# Altium footprint library Footprints.PcbLib: 132 footprints (part 6 of 9)
Each footprint in its own frame and in the unit in brackets; x right, y up, seen from the top. Pads: shape width x height; smd on the part's side, far side on the other; paste and mask are expansions set on the pad; w line width, h text height; cw(c..) or ccw(c..) is an arc to the next point about the centre after c.
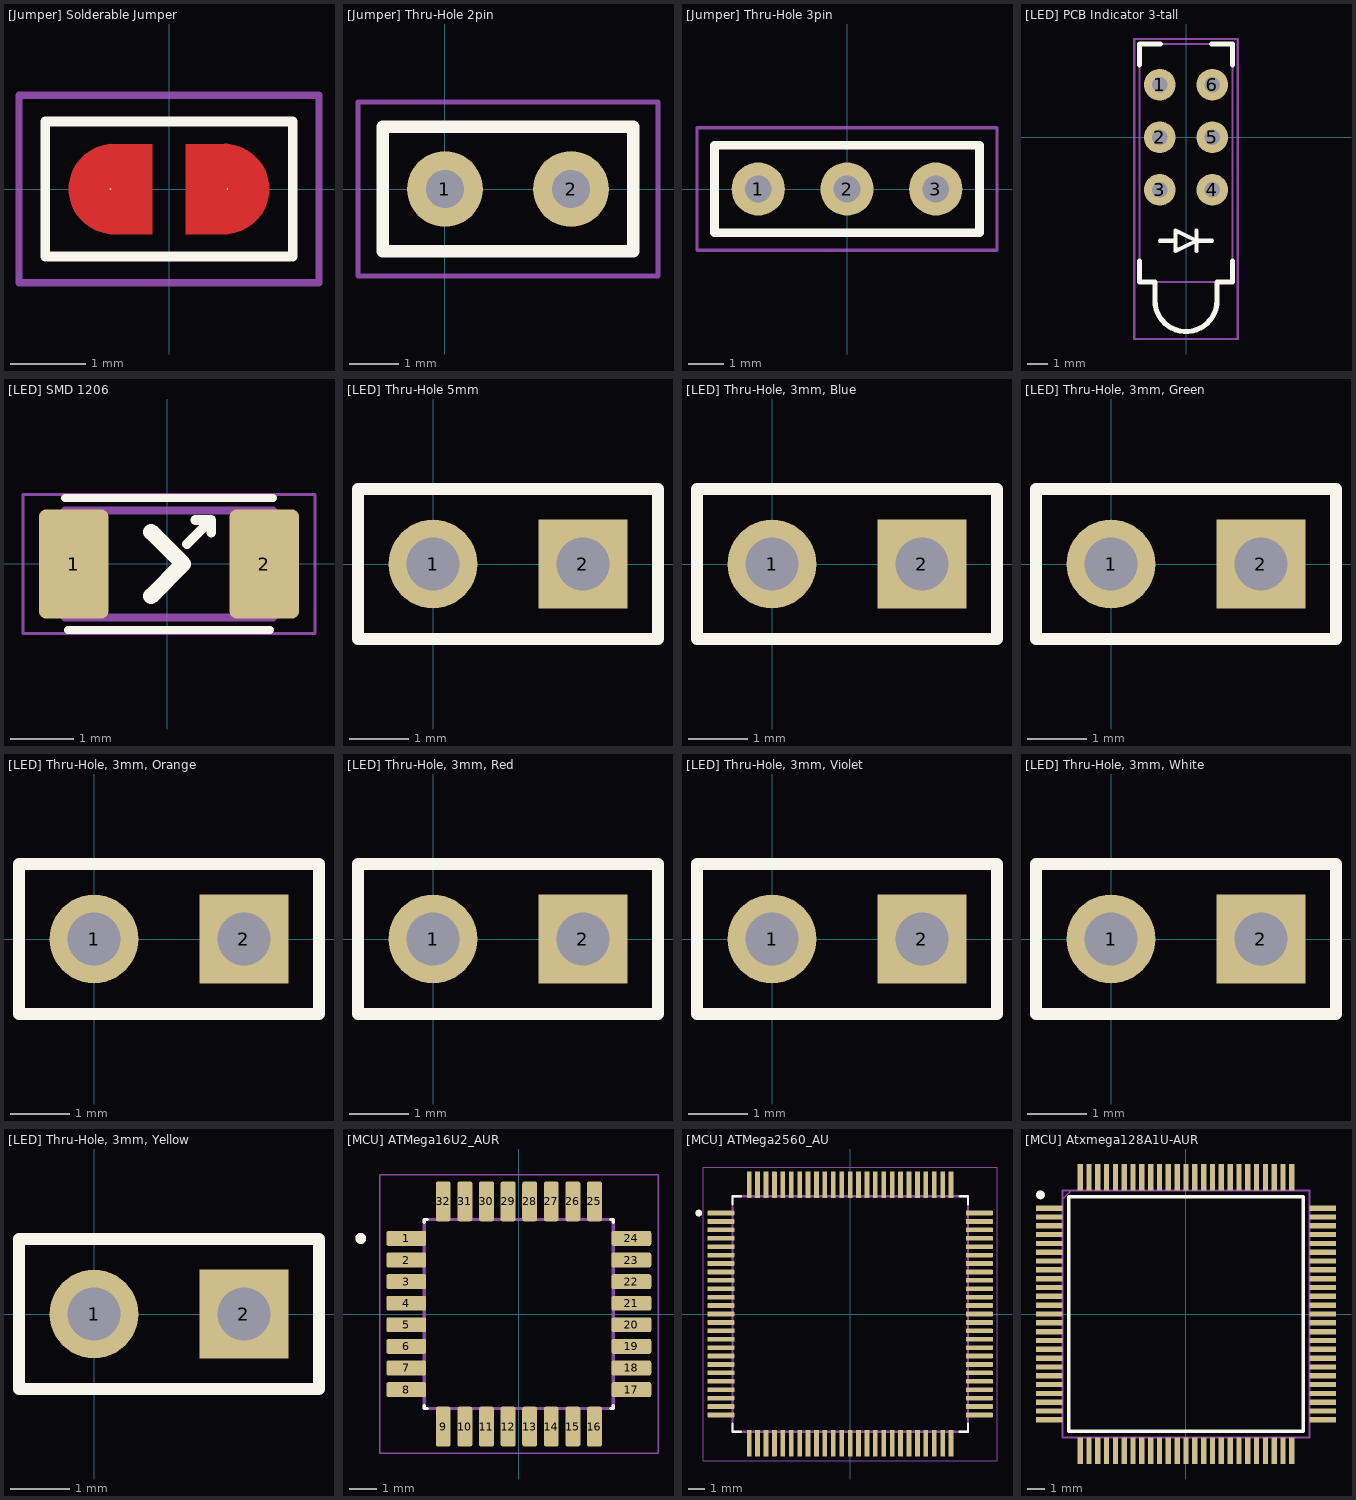
[diagram p5: the footprints below, top view; thin cyan lines are the x and y axes]

## [Jumper] Solderable Jumper [mil]
pads (2):
  round 1 smd: 1(-30.71,0) 2(30.71,0)
Top Layer:
  region: -8.9,-23.62 -8.9,23.62 -28.9,23.62 -30.76,23.62 -34.43,23.04 -37.97,21.89 -41.28,20.2 -44.29,18.02 -46.92,15.39 -49.1,12.38 -50.79,9.07 -51.94,5.53 -52.52,1.86 -52.52,-1.86 -51.94,-5.53 -50.79,-9.07 -49.1,-12.38 -46.92,-15.39 -44.29,-18.02 -41.28,-20.2 -37.97,-21.89 -34.43,-23.04 -30.76,-23.62 -28.9,-23.62
  region: 8.9,-23.62 8.9,23.62 28.9,23.62 30.76,23.62 34.43,23.04 37.97,21.89 41.28,20.2 44.29,18.02 46.92,15.39 49.1,12.38 50.79,9.07 51.94,5.53 52.52,1.86 52.52,-1.86 51.94,-5.53 50.79,-9.07 49.1,-12.38 46.92,-15.39 44.29,-18.02 41.28,-20.2 37.97,-21.89 34.43,-23.04 30.76,-23.62 28.9,-23.62
Top Overlay:
  lines w5: -64.96,-35.43 -64.96,35.43 64.96,35.43 64.96,-35.43 ; -63.39,-35.43 63.39,-35.43
Part Border:
  lines w3.94: -78.74,-49.21 -78.74,49.21 78.74,49.21 78.74,-49.21 -78.74,-49.21

## [Jumper] Thru-Hole 2pin [mil]
pads (2):
  round 60 hole 30: 1(0,0) 2(100,0)
Top Overlay:
  lines w10: -49.21,-49.21 149.21,-49.21 149.21,49.21 -49.21,49.21 -49.21,-49.21
Part Border:
  lines w3.94: -68.9,-68.9 -68.9,68.9 168.9,68.9 168.9,-68.9 -68.9,-68.9
3D body "Pin Header 1x2 TH Pitch 2.54mm.stp": height 373.85, standoff -125.98, extent -50,-50 150,50

## [Jumper] Thru-Hole 3pin [mil]
pads (3):
  round 60 hole 30: 1(-100,0) 2(0,0) 3(100,0)
Top Overlay:
  lines w10: -149.21,-49.21 149.21,-49.21 149.21,49.21 -149.21,49.21 -149.21,-49.21
Part Border:
  lines w3.94: -168.9,-68.9 -168.9,68.9 168.9,68.9 168.9,-68.9 -168.9,-68.9
3D body "Pin Header 1x3 TH Pitch 2.54mm.stp": height 373.85, standoff -125.98, extent -150,-50 150,50

## [LED] PCB Indicator 3-tall [mil] "QLA764B-3G"
pads (6):
  round 60 hole 30: 1(-50,100) 2(-50,0) 3(-50,-100) 4(50,-100) 5(50,0) 6(50,100)
Top Overlay:
  lines w7.87: -49.21,-196.85 -19.68,-196.85 ; 19.69,-216.54 19.69,-177.17 ; 49.21,-196.85 19.69,-196.85 ; 19.69,-196.85 -19.68,-216.54 -19.68,-177.17 19.69,-196.85
  lines w10: -88.58,-235.83 -88.58,-275.2 -59.06,-275.2 -59.06,-310.63 ccw(c0,-310.63) 59.06,-310.63 59.06,-275.2 88.58,-275.2 88.58,-235.83 ; -88.58,138.19 -88.58,177.56 -49.21,177.56 ; 49.21,177.56 88.58,177.56 88.58,138.19
Physical Outline:
  lines w3.94: -59.06,-275.2 -59.06,-310.63 ccw(c0,-310.63) 59.06,-310.63 59.06,-275.2 ; -88.58,-275.2 -88.58,177.56 88.58,177.56 88.58,-275.2 -88.58,-275.2
Part Border:
  lines w3.94: -98.43,-383.86 -98.43,187.01 98.43,187.01 98.43,-383.86 -98.43,-383.86
3D body "[LED] PCB Indicator 3-tall.stp": height 605.12, standoff -132.68, extent -85.04,-375 85.04,178.15

## [LED] SMD 1206 [mm]
pads (2):
  rrect20% 1.1x1.73 smd: 1(-1.48,0) 2(1.54,0)
Top Overlay:
  lines w0.127: -1.62,1.045 1.68,1.045 ; -1.57,-1.045 1.63,-1.045
  lines w0.155: 0.318,0.318 0.699,0.699 ; 0.445,0.699 0.699,0.699 ; 0.699,0.499 0.699,0.699
  lines w0.254: -0.254,-0.508 0.254,0 -0.254,0.508
Physical Outline:
  lines w0.127: -1.62,-0.85 -1.62,0.85 1.68,0.85 1.68,-0.85 -1.62,-0.85
Part Border:
  lines w0.05: -2.28,-1.1 -2.28,1.1 2.34,1.1 2.34,-1.1 -2.28,-1.1
3D body "step_temp.STEP": height 1.07, standoff -0.03, extent -1.57,-0.8 1.63,0.8

## [LED] Thru-Hole 5mm [mm]
pads (2):
  round 1.5 hole 0.9: 1(0,0)
  rect 1.5x1.5 hole 0.9: 2(2.54,0)
Top Overlay:
  lines w0.2: -1.27,-1.27 3.81,-1.27 3.81,1.27 -1.27,1.27 -1.27,-1.27
3D body "LED 5mm.STEP": height 9.8, standoff -26, extent -1.7,-2.921 3.8,3.078

## [LED] Thru-Hole, 3mm, Blue [mm]
pads (2):
  round 1.5 hole 0.9: 1(0,0)
  rect 1.5x1.5 hole 0.9: 2(2.54,0)
Top Overlay:
  lines w0.2: -1.27,-1.27 3.81,-1.27 3.81,1.27 -1.27,1.27 -1.27,-1.27
3D body "LED 3mm Blue.step": height 5.6, standoff -7, extent -0.625,-1.924 2.95,1.924

## [LED] Thru-Hole, 3mm, Green [mm]
pads (2):
  round 1.5 hole 0.9: 1(0,0)
  rect 1.5x1.5 hole 0.9: 2(2.54,0)
Top Overlay:
  lines w0.2: -1.27,-1.27 3.81,-1.27 3.81,1.27 -1.27,1.27 -1.27,-1.27
3D body "LED 3mm Green.step": height 5.6, standoff -7, extent -0.625,-1.924 2.95,1.924

## [LED] Thru-Hole, 3mm, Orange [mm]
pads (2):
  round 1.5 hole 0.9: 1(0,0)
  rect 1.5x1.5 hole 0.9: 2(2.54,0)
Top Overlay:
  lines w0.2: -1.27,-1.27 -1.27,1.27 3.81,1.27 3.81,-1.27 -1.27,-1.27
3D body "LED 3mm Orange.step": height 5.6, standoff -7, extent -0.625,-1.924 2.95,1.924

## [LED] Thru-Hole, 3mm, Red [mm]
pads (2):
  round 1.5 hole 0.9: 1(0,0)
  rect 1.5x1.5 hole 0.9: 2(2.54,0)
Top Overlay:
  lines w0.2: -1.27,-1.27 3.81,-1.27 3.81,1.27 -1.27,1.27 -1.27,-1.27
3D body "LED 3mm Red.step": height 5.6, standoff -7, extent -0.625,-1.924 2.95,1.924

## [LED] Thru-Hole, 3mm, Violet [mm]
pads (2):
  round 1.5 hole 0.9: 1(0,0)
  rect 1.5x1.5 hole 0.9: 2(2.54,0)
Top Overlay:
  lines w0.2: -1.27,-1.27 3.81,-1.27 3.81,1.27 -1.27,1.27 -1.27,-1.27
3D body "LED 3mm Ultra Violet.step": height 5.6, standoff -7, extent -0.625,-1.924 2.95,1.924

## [LED] Thru-Hole, 3mm, White [mm]
pads (2):
  round 1.5 hole 0.9: 1(0,0)
  rect 1.5x1.5 hole 0.9: 2(2.54,0)
Top Overlay:
  lines w0.2: -1.27,-1.27 3.81,-1.27 3.81,1.27 -1.27,1.27 -1.27,-1.27
3D body "LED 3mm White.step": height 5.6, standoff -7, extent -0.625,-1.924 2.95,1.924

## [LED] Thru-Hole, 3mm, Yellow [mm]
pads (2):
  round 1.5 hole 0.9: 1(0,0)
  rect 1.5x1.5 hole 0.9: 2(2.54,0)
Top Overlay:
  lines w0.2: -1.27,-1.27 3.81,-1.27 3.81,1.27 -1.27,1.27 -1.27,-1.27
3D body "LED 3mm Yellow.step": height 5.6, standoff -7, extent -0.625,-1.924 2.95,1.924

## [MCU] ATMega16U2_AUR [mm]
pads (32):
  rrect25% 1.47x0.55 smd: 1(-4.17,2.8) 2(-4.17,2) 3(-4.17,1.2) 4(-4.17,0.4) 5(-4.17,-0.4) 6(-4.17,-1.2) 7(-4.17,-2) 8(-4.17,-2.8) 17(4.17,-2.8) 18(4.17,-2) 19(4.17,-1.2) 20(4.17,-0.4) 21(4.17,0.4) 22(4.17,1.2) 23(4.17,2) 24(4.17,2.8)
  rrect25% 0.55x1.47 smd: 9(-2.8,-4.17) 10(-2,-4.17) 11(-1.2,-4.17) 12(-0.4,-4.17) 13(0.4,-4.17) 14(1.2,-4.17) 15(2,-4.17) 16(2.8,-4.17) 25(2.8,4.17) 26(2,4.17) 27(1.2,4.17) 28(0.4,4.17) 29(-0.4,4.17) 30(-1.2,4.17) 31(-2,4.17) 32(-2.8,4.17)
Top Overlay:
  circle w0.2: c-5.86,2.8 r0.1
  lines w0.127: -3.5,-3.395 -3.5,-3.5 -3.395,-3.5 ; -3.5,3.395 -3.5,3.5 -3.395,3.5 ; 3.395,-3.5 3.5,-3.5 3.5,-3.395 ; 3.395,3.5 3.5,3.5 3.5,3.395
Physical Outline:
  circle w0.2: c-5.86,2.8 r0.1
  lines w0.127: -3.5,-3.5 -3.5,3.5 3.5,3.5 3.5,-3.5 -3.5,-3.5
Part Border:
  lines w0.05: -5.155,-5.155 -5.155,5.155 5.155,5.155 5.155,-5.155 -5.155,-5.155
3D body "ATMEGA16U2-AUR.step": height 1.2, standoff 0, extent -4.5,-4.5 4.5,4.5

## [MCU] ATMega2560_AU [mm]
pads (100):
  rrect25% 1.6x0.28 smd: 1(-7.68,6) 2(-7.68,5.5) 3(-7.68,5) 4(-7.68,4.5) 5(-7.68,4) 6(-7.68,3.5) 7(-7.68,3) 8(-7.68,2.5) 9(-7.68,2) 10(-7.68,1.5) 11(-7.68,1) 12(-7.68,0.5) 13(-7.68,0) 14(-7.68,-0.5) 15(-7.68,-1) 16(-7.68,-1.5) 17(-7.68,-2) 18(-7.68,-2.5) 19(-7.68,-3) 20(-7.68,-3.5) 21(-7.68,-4) 22(-7.68,-4.5) 23(-7.68,-5) 24(-7.68,-5.5) 25(-7.68,-6) 51(7.68,-6) 52(7.68,-5.5) 53(7.68,-5) 54(7.68,-4.5) 55(7.68,-4) 56(7.68,-3.5) 57(7.68,-3) 58(7.68,-2.5) 59(7.68,-2) 60(7.68,-1.5) 61(7.68,-1) 62(7.68,-0.5) 63(7.68,0) 64(7.68,0.5) 65(7.68,1) 66(7.68,1.5) 67(7.68,2) 68(7.68,2.5) 69(7.68,3) 70(7.68,3.5) 71(7.68,4) 72(7.68,4.5) 73(7.68,5) 74(7.68,5.5) 75(7.68,6)
  rrect25% 0.28x1.6 smd: 26(-6,-7.68) 27(-5.5,-7.68) 28(-5,-7.68) 29(-4.5,-7.68) 30(-4,-7.68) 31(-3.5,-7.68) 32(-3,-7.68) 33(-2.5,-7.68) 34(-2,-7.68) 35(-1.5,-7.68) 36(-1,-7.68) 37(-0.5,-7.68) 38(0,-7.68) 39(0.5,-7.68) 40(1,-7.68) 41(1.5,-7.68) 42(2,-7.68) 43(2.5,-7.68) 44(3,-7.68) 45(3.5,-7.68) 46(4,-7.68) 47(4.5,-7.68) 48(5,-7.68) 49(5.5,-7.68) 50(6,-7.68) 76(6,7.68) 77(5.5,7.68) 78(5,7.68) 79(4.5,7.68) 80(4,7.68) 81(3.5,7.68) 82(3,7.68) 83(2.5,7.68) 84(2,7.68) 85(1.5,7.68) 86(1,7.68) 87(0.5,7.68) 88(0,7.68) 89(-0.5,7.68) 90(-1,7.68) 91(-1.5,7.68) 92(-2,7.68) 93(-2.5,7.68) 94(-3,7.68) 95(-3.5,7.68) 96(-4,7.68) 97(-4.5,7.68) 98(-5,7.68) 99(-5.5,7.68) 100(-6,7.68)
Top Overlay:
  circle w0.2: c-9,6 r0.1
  lines w0.127: -7,-6.5 -7,-7 -6.5,-7 ; -7,6.5 -7,7 -6.5,7 ; 6.5,-7 7,-7 7,-6.5 ; 6.5,7 7,7 7,6.5
Physical Outline:
  circle w0.2: c-9,6 r0.1
  lines w0.127: -7,-7 7,-7 7,7 -7,7 -7,-7
Part Border:
  lines w0.05: -8.73,-8.73 -8.73,8.73 8.73,8.73 8.73,-8.73 -8.73,-8.73
3D body "ATMega_2560.step": height 1.2, standoff 0, extent -8.128,-8.128 8.128,8.128

## [MCU] Atxmega128A1U-AUR [mm]
pads (100):
  rect 1.5x0.3 smd: 1(-7.75,6) 2(-7.75,5.5) 3(-7.75,5) 4(-7.75,4.5) 5(-7.75,4) 6(-7.75,3.5) 7(-7.75,3) 8(-7.75,2.5) 9(-7.75,2) 10(-7.75,1.5) 11(-7.75,1) 12(-7.75,0.5) 13(-7.75,0) 14(-7.75,-0.5) 15(-7.75,-1) 16(-7.75,-1.5) 17(-7.75,-2) 18(-7.75,-2.5) 19(-7.75,-3) 20(-7.75,-3.5) 21(-7.75,-4) 22(-7.75,-4.5) 23(-7.75,-5) 24(-7.75,-5.5) 25(-7.75,-6) 51(7.75,-6) 52(7.75,-5.5) 53(7.75,-5) 54(7.75,-4.5) 55(7.75,-4) 56(7.75,-3.5) 57(7.75,-3) 58(7.75,-2.5) 59(7.75,-2) 60(7.75,-1.5) 61(7.75,-1) 62(7.75,-0.5) 63(7.75,0) 64(7.75,0.5) 65(7.75,1) 66(7.75,1.5) 67(7.75,2) 68(7.75,2.5) 69(7.75,3) 70(7.75,3.5) 71(7.75,4) 72(7.75,4.5) 73(7.75,5) 74(7.75,5.5) 75(7.75,6)
  rect 0.3x1.5 smd: 26(-6,-7.75) 27(-5.5,-7.75) 28(-5,-7.75) 29(-4.5,-7.75) 30(-4,-7.75) 31(-3.5,-7.75) 32(-3,-7.75) 33(-2.5,-7.75) 34(-2,-7.75) 35(-1.5,-7.75) 36(-1,-7.75) 37(-0.5,-7.75) 38(0,-7.75) 39(0.5,-7.75) 40(1,-7.75) 41(1.5,-7.75) 42(2,-7.75) 43(2.5,-7.75) 44(3,-7.75) 45(3.5,-7.75) 46(4,-7.75) 47(4.5,-7.75) 48(5,-7.75) 49(5.5,-7.75) 50(6,-7.75) 76(6,7.75) 77(5.5,7.75) 78(5,7.75) 79(4.5,7.75) 80(4,7.75) 81(3.5,7.75) 82(3,7.75) 83(2.5,7.75) 84(2,7.75) 85(1.5,7.75) 86(1,7.75) 87(0.5,7.75) 88(0,7.75) 89(-0.5,7.75) 90(-1,7.75) 91(-1.5,7.75) 92(-2,7.75) 93(-2.5,7.75) 94(-3,7.75) 95(-3.5,7.75) 96(-4,7.75) 97(-4.5,7.75) 98(-5,7.75) 99(-5.5,7.75) 100(-6,7.75)
Top Overlay:
  circle w0.25: c-8.25,6.75 r0.125
  lines w0.2: -6.65,-6.65 6.65,-6.65 6.65,6.65 -6.65,6.65 -6.65,-6.65
Part Border:
  lines w0.1: -7,6.5 -6.5,7 ; -7,-7 7,-7 7,7 -7,7 -7,-7
3D body "MCU - ATxmega128A1U-AUR.stp": height 1.2, standoff 0, extent -8,-8 8,8